# Altium footprint library EDP_V3.PcbLib: 18 footprints (part 1 of 2)
Each footprint in its own frame and in the unit in brackets; x right, y up, seen from the top. Pads: shape width x height; smd on the part's side, far side on the other; paste and mask are expansions set on the pad; w line width, h text height; cw(c..) or ccw(c..) is an arc to the next point about the centre after c.
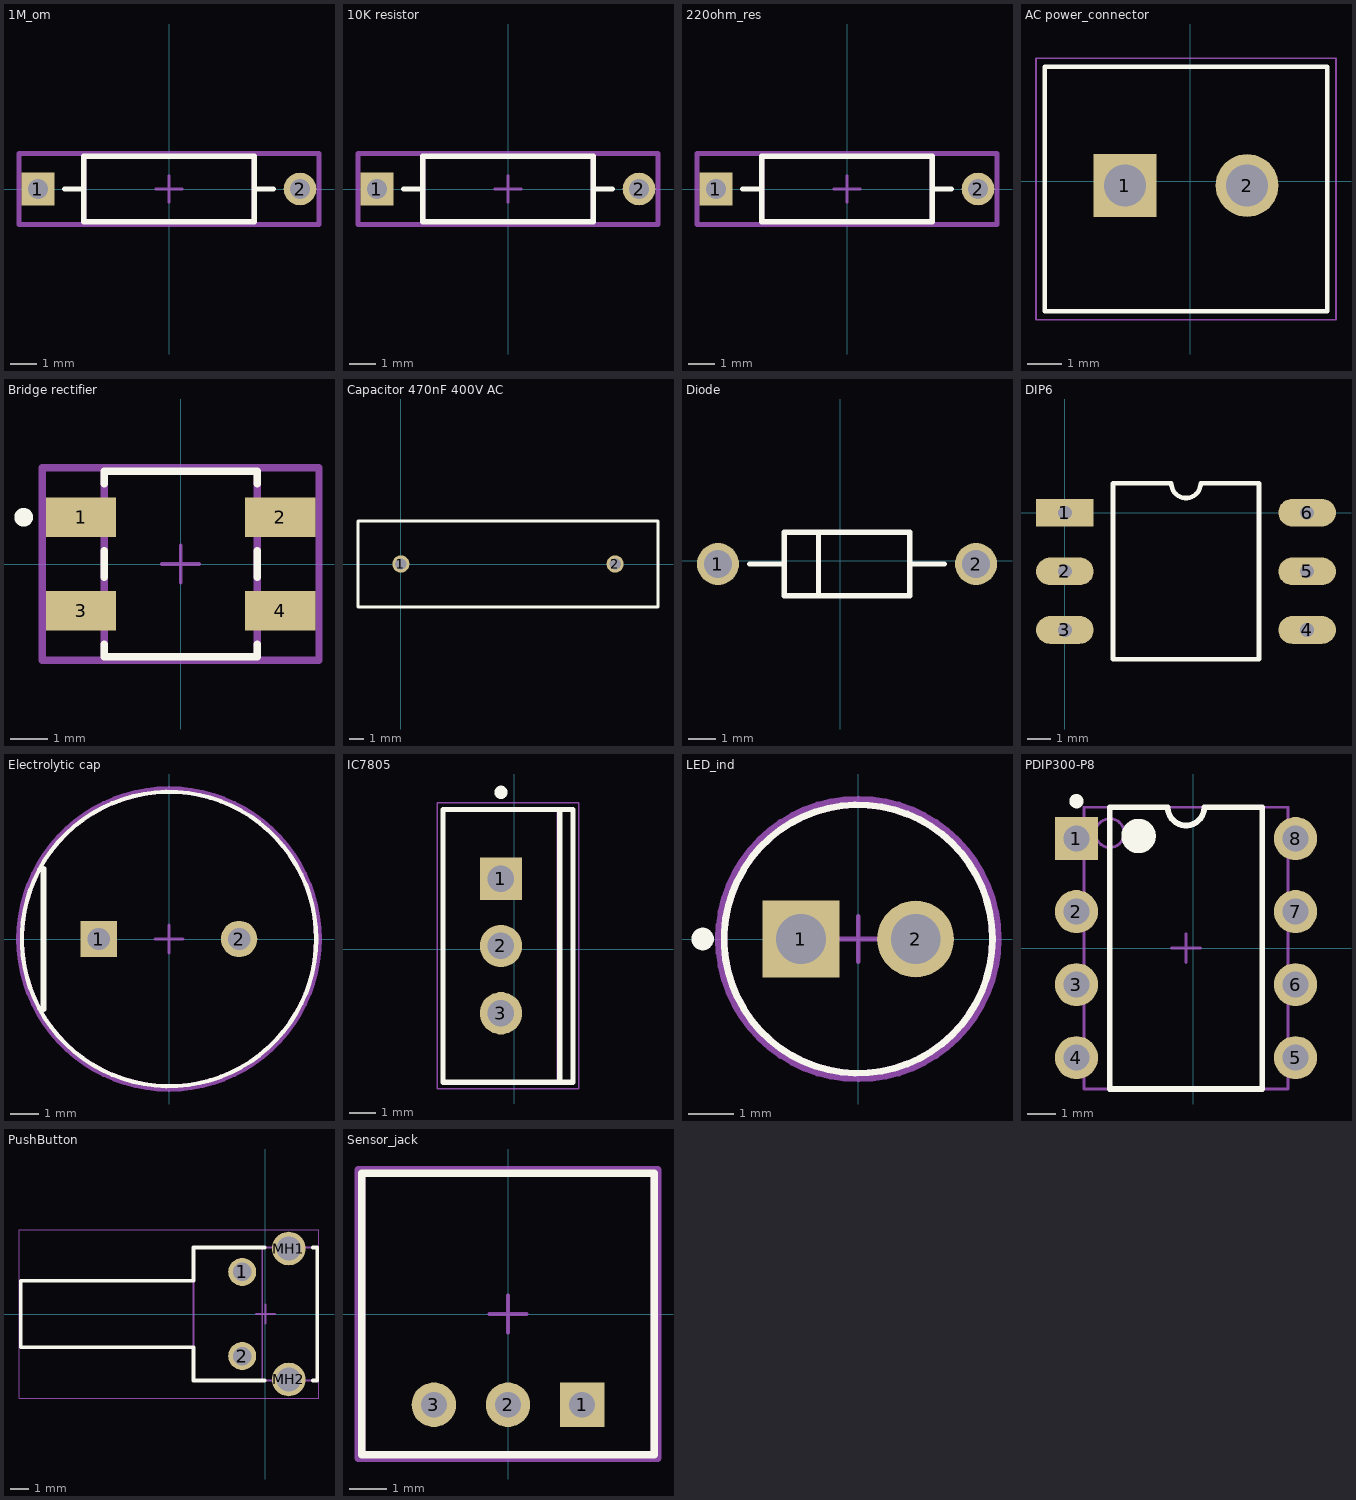
[diagram p0: the footprints below, top view; thin cyan lines are the x and y axes]

## 1M_om [mm]
pads (2):
  rect 1.25x1.25 hole 0.75 paste-2539.97 mask+0: 1(-5,0)
  round 1.25 hole 0.75 paste-2539.97 mask+0: 2(5,0)
Top Overlay:
  lines w0.2: -3.975,0 -3.25,0 ; 3.25,0 3.975,0 ; -3.25,-1.25 3.25,-1.25 3.25,1.25 -3.25,1.25 -3.25,-1.25
Top 3D Body:
  lines w0.2: -3.25,-1.25 3.25,-1.25 3.25,1.25 -3.25,1.25 -3.25,-1.25
Board:
  lines w0.2: -5.725,-1.35 5.725,-1.35 5.725,1.35 -5.725,1.35 -5.725,-1.35
Top Assembly:
  lines w0.2: -5.725,-1.35 5.725,-1.35 5.725,1.35 -5.725,1.35 -5.725,-1.35
Top Component Center:
  lines w0.1: -0.5,0 0.5,0 ; 0,-0.5 0,0.5
3D body "Res_Vishay_MRS25000C1910FCT00_eec.STEP": height 0.25, standoff 0, extent -5.725,-1.35 5.725,1.35

## 3 way switch [mm]

## 10K resistor [mm]
pads (2):
  rect 1.25x1.25 hole 0.75 paste-2539.97 mask+0: 1(-5,0)
  round 1.25 hole 0.75 paste-2539.97 mask+0: 2(5,0)
Top Overlay:
  lines w0.2: -3.975,0 -3.25,0 ; 3.25,0 3.975,0 ; -3.25,-1.25 -3.25,1.25 3.25,1.25 3.25,-1.25 -3.25,-1.25
Top 3D Body:
  lines w0.2: -3.25,-1.25 -3.25,1.25 3.25,1.25 3.25,-1.25 -3.25,-1.25
Board:
  lines w0.2: -5.725,-1.35 -5.725,1.35 5.725,1.35 5.725,-1.35 -5.725,-1.35
Top Assembly:
  lines w0.2: -5.725,-1.35 -5.725,1.35 5.725,1.35 5.725,-1.35 -5.725,-1.35
  text ".Designator" at 0,0.188 h1
Top Component Center:
  lines w0.1: -0.5,0 0.5,0 ; 0,-0.5 0,0.5
3D body "Res_Vishay_MRS25000C1910FCT00_eec.STEP": height 0.25, standoff 0, extent -5.725,-1.35 5.725,1.35

## 220ohm_res [mm]
pads (2):
  rect 1.25x1.25 hole 0.75 paste-2539.97 mask+0: 1(-5,0)
  round 1.25 hole 0.75 paste-2539.97 mask+0: 2(5,0)
Top Overlay:
  lines w0.2: -3.975,0 -3.25,0 ; 3.25,0 3.975,0 ; -3.25,-1.25 3.25,-1.25 3.25,1.25 -3.25,1.25 -3.25,-1.25
Top 3D Body:
  lines w0.2: -3.25,-1.25 3.25,-1.25 3.25,1.25 -3.25,1.25 -3.25,-1.25
Board:
  lines w0.2: -5.725,-1.35 5.725,-1.35 5.725,1.35 -5.725,1.35 -5.725,-1.35
Top Assembly:
  lines w0.2: -5.725,-1.35 5.725,-1.35 5.725,1.35 -5.725,1.35 -5.725,-1.35
Top Component Center:
  lines w0.1: -0.5,0 0.5,0 ; 0,-0.5 0,0.5
3D body "Res_Vishay_MRS25000C1910FCT00_eec.STEP": height 0.25, standoff 0, extent -5.725,-1.35 5.725,1.35

## AC power_connector [mm]
pads (2):
  rect 1.8x1.8 / inner round 1.8 / far side rect 1.8x1.8 hole 1.2: 1(-1.877,-0.127)
  round 1.8 hole 1.2: 2(1.623,-0.127)
Top Overlay:
  lines w0.127: -4.177,-3.727 3.923,-3.727 3.923,3.273 -4.177,3.273 -4.177,-3.727
Mechanical 15:
  lines w0.05: -4.427,-3.977 4.173,-3.977 4.173,3.523 -4.427,3.523 -4.427,-3.977
3D body "step_temp.STEP": height 8.4, standoff -3.8, extent -4.127,-3.627 3.873,3.373

## Bridge rectifier [mm]
pads (4):
  rect 1.875x1.05 smd paste+0 mask+0: 1(-2.658,1.25) 2(2.667,1.25) 3(-2.658,-1.25) 4(2.667,-1.25)
Top Overlay:
  circle w0.25: c-4.195,1.25 r0.125
  lines w0.2: -2.045,-2.15 -2.045,-2.475 2.055,-2.475 2.055,-2.15 ; -2.045,-0.35 -2.045,0.35 ; -2.045,2.15 -2.045,2.475 2.055,2.475 2.055,2.15 ; 2.055,-0.35 2.055,0.35
Top 3D Body:
  lines w0.2: -2.045,-2.475 -2.045,2.475 2.055,2.475 2.055,-2.475 -2.045,-2.475
Board:
  lines w0.2: -3.695,-2.575 -3.695,2.575 3.705,2.575 3.705,-2.575 -3.695,-2.575
Top Assembly:
  lines w0.2: -3.695,-2.575 -3.695,2.575 3.705,2.575 3.705,-2.575 -3.695,-2.575
  text ".Designator" at 0.004,0.188 h1
Top Component Center:
  lines w0.1: -0.495,0 0.504,0 ; 0.005,-0.5 0.005,0.5
3D body "Diode_Diodes_Incorporated_MB10F-13_eec.STEP": height 0.25, standoff 0, extent -3.695,-2.575 3.705,2.575

## Capacitor 470nF 400V AC [mm]
pads (2):
  round 1.2 hole 0.8: 1(0,0) 2(15,0)
Top Overlay:
  lines w0.2: -3,-3 -3,3 0,3 15,3 18,3 18,-3 15,-3 0,-3 -3,-3

## Diode [mm]
pads (2):
  round 1.55 hole 1.05: 1(-4.516,-0.127) 2(5.024,-0.127)
Top Overlay:
  lines w0.2: -3.341,-0.127 -2.071,-0.127 ; -0.801,-1.302 -0.801,1.048 ; 2.579,-0.127 3.849,-0.127 ; -2.071,-1.302 2.579,-1.302 2.579,1.048 -2.071,1.048 -2.071,-1.302

## DIP6 [mm]
pads (6):
  rect 2.5x1.2 hole 0.6: 1(0,0)
  oval 2.5x1.2 hole 0.6: 2(0,-2.54) 3(0,-5.08) 4(10.5,-5.08) 5(10.5,-2.54) 6(10.5,0)
Top Overlay:
  lines w0.2: 2.085,-6.35 8.415,-6.35 8.415,1.27 5.885,1.27 cw(c5.25,1.27) 4.615,1.27 2.085,1.27 2.085,-6.35

## Electrolytic cap [mm]
pads (2):
  rect 1.3x1.3 hole 0.8 paste-2539.97 mask+0: 1(-2.5,0)
  round 1.3 hole 0.8 paste-2539.97 mask+0: 2(2.5,0)
Top Overlay:
  circle w0.15: c0,0 r5.25
  lines w0.2: -4.475,-2.5 -4.475,2.5
Top 3D Body:
  circle w0.15: c0,0 r5.25
Board:
  lines w0.2: -5.35,0 ccw(c0,0) 5.35,0 ccw(c0,0) -5.35,0
Top Assembly:
  text ".Designator" at 0,0.188 h1
Top Component Center:
  lines w0.1: -0.5,0 0.5,0 ; 0,-0.5 0,0.5
3D body "Cap_Panasonic_EEUFR0J182_eec.STEP": height 0.25, standoff 0, extent -5.35,-5.35 5.35,5.35

## IC7805 [mm]
pads (3):
  rect 1.6x1.6 hole 1: 1(-0.508,2.667)
  round 1.6 hole 1: 2(-0.508,0.127) 3(-0.508,-2.413)
Top Overlay:
  circle w0.25: c-0.508,5.927 r0.125
  lines w0.2: 1.707,-5.023 1.707,5.277 ; -2.693,-5.023 -2.693,5.277 2.207,5.277 2.207,-5.023 -2.693,-5.023
Mechanical 13:
  lines w0.1: 1.632,-5.023 1.632,5.277 ; -2.668,-5.023 2.182,-5.023 2.182,5.277 -2.668,5.277 -2.668,-5.023
Mechanical 15:
  lines w0.05: -2.918,-5.273 2.432,-5.273 2.432,5.527 -2.918,5.527 -2.918,-5.273
  lines w0.1: -1.008,0.127 -0.008,0.127 ; -0.508,-0.373 -0.508,0.627
3D body: height 19.68, standoff 18.71, extent 1.632,-4.848 2.182,5.102
3D body: height 17.24, standoff 16.88, extent 1.632,-4.848 2.182,-1.698
3D body: height 17.24, standoff 16.88, extent 1.632,1.952 2.182,5.102
3D body: height 16.88, standoff 16.52, extent 1.632,-4.848 2.182,-1.698
3D body: height 16.88, standoff 16.52, extent 1.632,1.952 2.182,5.102
3D body: height 17.58, standoff 17.24, extent 1.632,-4.848 2.182,-1.663
3D body: height 17.58, standoff 17.24, extent 1.632,1.917 2.182,5.102
3D body: height 16.53, standoff 16.18, extent 1.632,-4.848 2.182,-1.663
3D body: height 16.53, standoff 16.18, extent 1.632,1.917 2.182,5.102
3D body: height 17.9, standoff 17.58, extent 1.632,-4.848 2.182,-1.559
3D body: height 17.9, standoff 17.58, extent 1.632,1.813 2.182,5.102
3D body: height 16.19, standoff 15.87, extent 1.632,-4.848 2.182,-1.559
3D body: height 16.19, standoff 15.87, extent 1.632,1.813 2.182,5.102
3D body: height 18.18, standoff 17.89, extent 1.632,-4.848 2.182,-1.39
3D body: height 18.18, standoff 17.89, extent 1.632,1.644 2.182,5.102
3D body: height 15.87, standoff 15.59, extent 1.632,-4.848 2.182,-1.39
3D body: height 15.87, standoff 15.59, extent 1.632,1.644 2.182,5.102
3D body: height 18.4, standoff 18.17, extent 1.632,-4.848 2.182,-1.163
3D body: height 18.4, standoff 18.17, extent 1.632,1.417 2.182,5.102
3D body: height 15.59, standoff 15.36, extent 1.632,-4.848 2.182,-1.163
3D body: height 15.59, standoff 15.36, extent 1.632,1.417 2.182,5.102
3D body: height 18.57, standoff 18.4, extent 1.632,-4.848 2.182,-0.887
3D body: height 18.57, standoff 18.4, extent 1.632,1.141 2.182,5.102
3D body: height 15.37, standoff 15.19, extent 1.632,-4.848 2.182,-0.887
3D body: height 15.37, standoff 15.19, extent 1.632,1.141 2.182,5.102
3D body: height 18.67, standoff 18.57, extent 1.632,-4.848 2.182,-0.571
3D body: height 18.67, standoff 18.57, extent 1.632,0.825 2.182,5.102
3D body: height 15.2, standoff 15.09, extent 1.632,-4.848 2.182,-0.571
3D body: height 15.2, standoff 15.09, extent 1.632,0.825 2.182,5.102
3D body: height 18.71, standoff 18.67, extent 1.632,-4.848 2.182,-0.229
3D body: height 18.71, standoff 18.67, extent 1.632,0.483 2.182,5.102
3D body: height 15.1, standoff 15.06, extent 1.632,-4.848 2.182,-0.229
3D body: height 15.1, standoff 15.06, extent 1.632,0.483 2.182,5.102
3D body: height 15.06, standoff 13.48, extent 1.632,-4.848 2.182,5.102
3D body: height 13.48, standoff 2.8, extent -2.668,-5.023 2.182,5.277
3D body: height 0, standoff -1.6, extent -0.783,-2.793 -0.233,-2.033
3D body: height 2.8, standoff 0, extent -0.783,-3.083 -0.233,-1.743
3D body: height 0, standoff -1.6, extent -0.783,-0.253 -0.233,0.507
3D body: height 2.8, standoff 0, extent -0.783,-0.543 -0.233,0.797
3D body: height 0, standoff -1.6, extent -0.783,2.287 -0.233,3.047
3D body: height 2.8, standoff 0, extent -0.783,1.997 -0.233,3.337

## LED_ind [mm]
pads (2):
  rect 1.7x1.7 hole 1.1 paste-2539.97 mask+0: 1(-1.27,0)
  round 1.7 hole 1.1 paste-2539.97 mask+0: 2(1.27,0)
Top Overlay:
  circle w0.15: c0,0 r2.975
  circle w0.25: c-3.45,0 r0.125
Top 3D Body:
  circle w0.15: c0,0 r2.975
Board:
  lines w0.2: -3.075,0 cw(c0,0) 3.075,0 cw(c0,0) -3.075,0
Top Assembly:
Top Component Center:
  lines w0.1: -0.5,0 0.5,0 ; 0,-0.5 0,0.5
3D body "Diode_Vishay_Semiconductor_TSFF5210_eec.STEP": height 0.25, standoff 0, extent -3.075,-3.075 3.075,3.075

## On/Off switch [mm]

## PDIP300-P8 [mm] "8-Pin Plastic Dual In-Line Package (PDIP)"
height 5.34
pads (8):
  rect 1.5x1.5 hole 0.9: 1(-4.064,3.81)
  round 1.5 hole 0.9: 2(-4.064,1.27) 3(-4.064,-1.27) 4(-4.064,-3.81) 5(3.556,-3.81) 6(3.556,-1.27) 7(3.556,1.27) 8(3.556,3.81)
Top Overlay:
  circle w0.25: c-4.064,5.11 r0.125
  circle w0.6: c-1.904,3.9 r0.3
  lines w0.2: -2.904,-4.9 -2.904,4.9 -0.889,4.9 ccw(c-0.254,4.9) 0.381,4.9 2.396,4.9 2.396,-4.9 -2.904,-4.9
Mechanical 13:
  circle w0.1: c-2.904,4 r0.5
  lines w0.1: -3.804,-4.9 -3.804,4.9 3.296,4.9 3.296,-4.9 -3.804,-4.9
Mechanical 15:
  lines w0.1: -0.754,0 0.246,0 ; -0.254,-0.5 -0.254,0.5
3D body: height 4.32, standoff 0, extent -3.804,-4.9 3.296,4.9

## PushButton [mm]
pads (4):
  round 1.5 hole 0.99: 1(-1.245,2.25) 2(-1.245,-2.25)
  round 1.8 hole 1.3: MH1(1.245,3.505) MH2(1.245,-3.505)
Top Overlay:
  lines w0.2: -0.054,-3.555 -3.855,-3.555 -3.855,-1.778 -3.858,-1.775 -13.095,-1.775 -13.095,1.775 -3.858,1.775 -3.858,3.552 -3.855,3.555 -0.054,3.555 ; 2.544,-3.555 2.765,-3.555 2.765,3.555 2.544,3.555
Mechanical 13:
  lines w0.1: -3.858,-1.775 -13.095,-1.775 -13.095,1.775 -3.858,1.775 ; -0.175,-3.555 2.765,-3.555 2.765,3.555 -0.175,3.555 ; -0.175,-3.555 -0.175,3.555 ; -0.175,-3.555 -3.855,-3.555 -3.855,3.555 -0.175,3.555
Mechanical 15:
  lines w0.05: -13.195,-4.505 -13.195,4.505 2.865,4.505 2.865,-4.505 -13.195,-4.505
  lines w0.1: -0.5,0 0.5,0 ; 0,-0.5 0,0.5
3D body "c-2-1825027-0-g1-3d.stp": height 7.01, standoff -3.51, extent -13.107,-4.204 2.756,4.204

## Sensor_jack [mm]
pads (3):
  rect 1.2x1.2 hole 0.7 paste-2539.97 mask+0: 1(2,-2.45)
  round 1.2 hole 0.7 paste-2539.97 mask+0: 2(0,-2.45) 3(-2,-2.45)
Top Overlay:
  lines w0.2: -3.95,-3.8 3.95,-3.8 3.95,3.8 -3.95,3.8 -3.95,-3.8
Top 3D Body:
  lines w0.2: -3.95,-3.8 3.95,-3.8 3.95,3.8 -3.95,3.8 -3.95,-3.8
Board:
  lines w0.2: -4.05,-3.9 4.05,-3.9 4.05,3.9 -4.05,3.9 -4.05,-3.9
Top Assembly:
  lines w0.2: -4.05,-3.9 4.05,-3.9 4.05,3.9 -4.05,3.9 -4.05,-3.9
  text ".Designator" at 0,-0.001 h1
Top Component Center:
  lines w0.1: -0.5,0 0.5,0 ; 0,-0.5 0,0.5
3D body "Conn_JST_S3B-PH-K-S_LF_SN_eec.STEP": height 0.25, standoff 0, extent -4.036,-3.937 4.064,3.863